# Altium footprint library CH563EVT封装库.PcbLib: 20 footprints (part 2 of 2)
Each footprint in its own frame and in the unit in brackets; x right, y up, seen from the top. Pads: shape width x height; smd on the part's side, far side on the other; paste and mask are expansions set on the pad; w line width, h text height; cw(c..) or ccw(c..) is an arc to the next point about the centre after c.
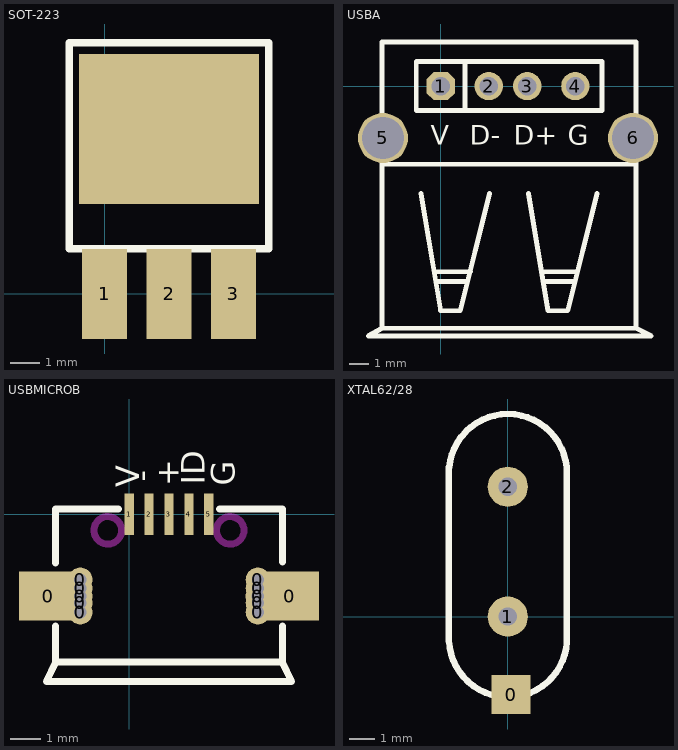
[diagram p1: the footprints below, top view; thin cyan lines are the x and y axes]

## SOT-223 [mil]
pads (4):
  rect 60x120 smd: 1(0,0) 2(86,0) 3(172,0)
  rect 240x200 smd: ""(86,220)
Top Overlay:
  lines w10: -47,60 219,60 219,335 -47,335 -47,60

## USBA [mm]
pads (6):
  oct 1.473x1.473 hole 0.965: 1(0,0)
  round 1.473 hole 0.965: 2(2.5,0) 3(4.5,0) 4(7,0)
  round 2.6 hole 2.2: 5(-3,-2.7) 6(10,-2.7)
Top Overlay:
  lines w0.254: -3.048,-4.064 10.16,-4.064 ; -1.016,-5.588 0,-11.684 1.016,-11.684 2.54,-5.588 ; -0.33,-9.652 1.549,-9.652 ; -0.203,-10.16 1.321,-10.16 ; 1.27,-1.27 1.27,1.27 ; 4.572,-5.588 5.588,-11.684 6.604,-11.684 8.128,-5.588 ; 5.232,-9.652 7.112,-9.652 ; 5.359,-10.16 6.883,-10.16 ; -3.048,-12.59 -3.752,-12.99 10.948,-12.99 10.16,-12.59 ; -3.048,-12.59 10.16,-12.59 ; -3.048,-12.59 -3.048,2.286 10.16,2.286 10.16,-12.59 ; -1.27,-1.27 -1.27,1.27 8.382,1.27 8.382,-1.27 -1.27,-1.27
  text "G" at 6.604,-3.048 h1.02
  text "V" at -0.508,-3.048 h1.02
  text "D+" at 3.81,-3.048 h1.02
  text "D-" at 1.524,-3.048 h1.02

## USBMICROB [mm]
pads (17):
  rect 1.9x1.6 smd: 0(-2.65,-2.675) 0(5.25,-2.675)
  round 0.8 hole 0.4: 0(-1.6,-2.675) 0(-1.596,-3.2) 0(-1.596,-2.896) 0(-1.596,-2.413) 0(-1.596,-2.134) 0(4.2,-2.675) 0(4.204,-3.2) 0(4.204,-2.896) 0(4.204,-2.413) 0(4.204,-2.134)
  rect 0.3x1.35 smd: 1(0,0) 2(0.65,0) 3(1.3,0) 4(1.95,0) 5(2.6,0)
Top Overlay:
  lines w0.229: -2.4,-3.65 -2.4,-4.825 ; -2.4,-1.592 -2.4,0.175 -0.351,0.175 ; 2.951,0.175 5,0.175 5,-1.558 ; 5,-3.65 5,-4.825 ; -2.4,-4.825 -2.7,-5.455 5.3,-5.455 5,-4.825 ; -2.4,-4.825 5,-4.825
  text "+" at 1.626,0.914 h0.76
  text "-" at 0.203,1.448 h0.76
  text "V" at 0.33,0.889 h0.76
  text "G" at 3.454,0.94 h0.76
  text "ID" at 2.464,0.965 h0.76
Keep-Out Layer:
  circle w0.229: c-0.7,-0.525 r0.45
  circle w0.229: c3.3,-0.525 r0.45

## XTAL62/28 [mil]
pads (3):
  rect 60x60 smd: 0(5,-120)
  round 62 hole 28: 1(0,0) 2(0,200)
Top Overlay:
  lines w10: -90.55,229.92 -90.55,-37.8 ccw(c0.33,-33.12) 91.19,-38.04 ; -90.25,229.97 cw(c0.15,221.22) 90.55,229.92 90.55,-38